# Altium footprint library SMA Conn 90.PcbLib: 1 footprints
Each footprint in its own frame and in the unit in brackets; x right, y up, seen from the top. Pads: shape width x height; smd on the part's side, far side on the other; paste and mask are expansions set on the pad; w line width, h text height; cw(c..) or ccw(c..) is an arc to the next point about the centre after c.
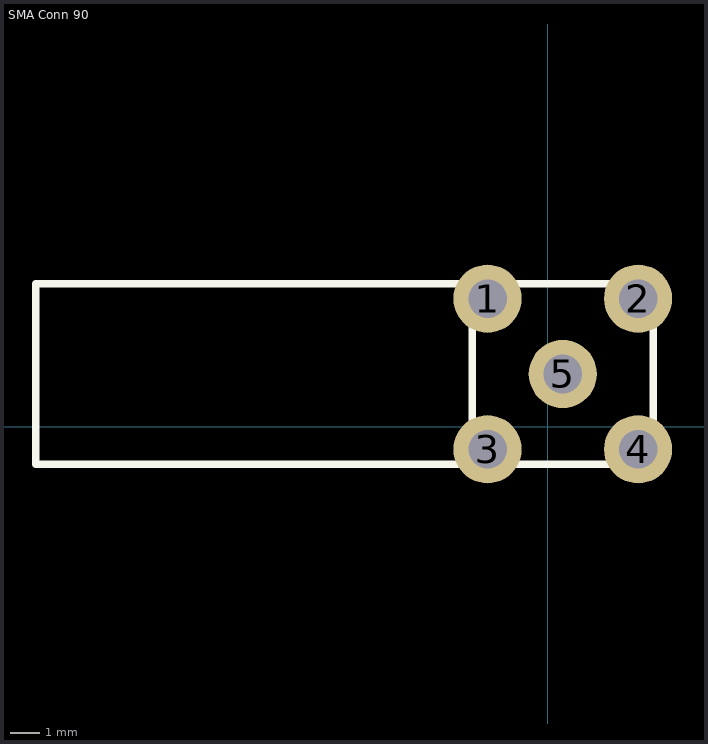
[diagram p0: the footprint, top view; thin cyan lines are the x and y axes]

## SMA Conn 90 [mm] "1 Inner bore SMA Board Edge Bend 6GHz -55℃~+155℃ 50Ω Plugin RF Connectors / Coaxial Connectors ROHS"
pads (5):
  round 2.3 hole 1.3: 1(-2.032,4.318) 2(3.048,4.318) 3(-2.032,-0.762) 4(3.048,-0.762) 5(0.508,1.778)
Top Overlay:
  lines w0.254: -2.54,-1.27 3.556,-1.27 3.556,4.826 -2.54,4.826 ; -2.54,-1.27 -2.54,4.826 ; -2.54,-1.27 -17.272,-1.27 -17.272,4.826 -2.54,4.826